# Altium schematic symbol library SCH - AUDIO - TDK T5838.SCHLIB: 1 symbol
Pins are listed as number, name and electrical type; pins without a type are passive.

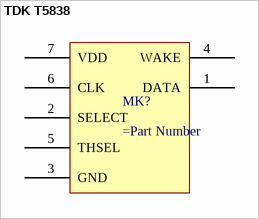
[diagram p0: symbol TDK T5838]

## TDK T5838
designator MK?
pins: 1 DATA, 2 SELECT, 3 GND, 4 WAKE, 5 THSEL, 6 CLK, 7 VDD